# Altium footprint library Alcetronics_IC.PcbLib: 43 footprints (part 3 of 3)
Each footprint in its own frame and in the unit in brackets; x right, y up, seen from the top. Pads: shape width x height; smd on the part's side, far side on the other; paste and mask are expansions set on the pad; w line width, h text height; cw(c..) or ccw(c..) is an arc to the next point about the centre after c.
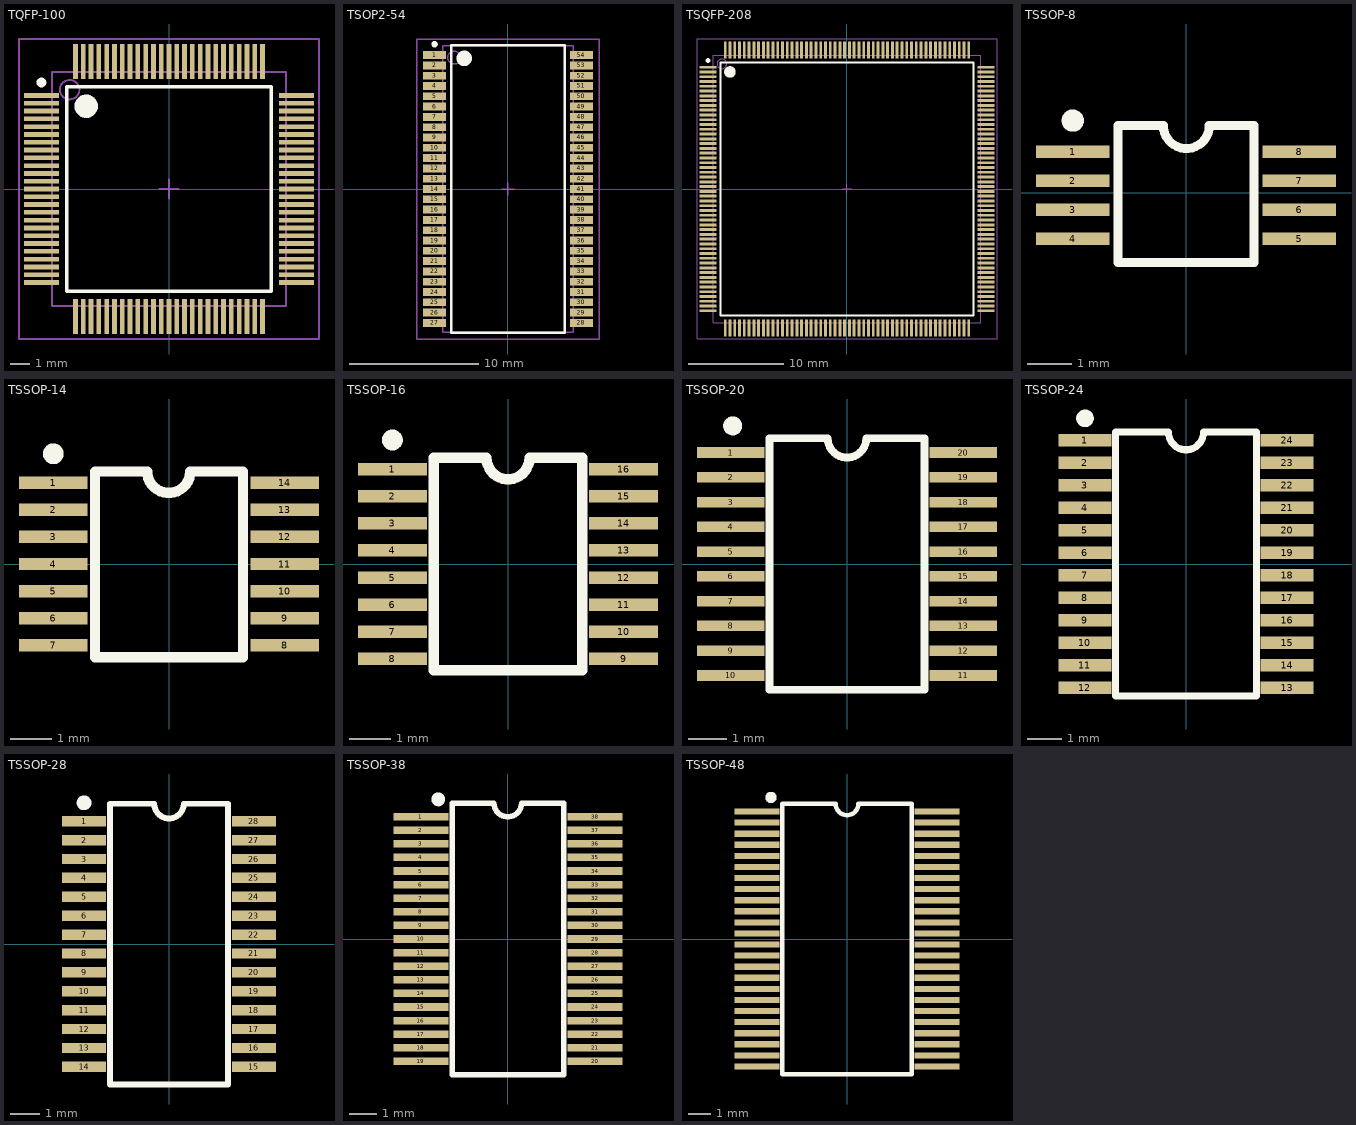
[diagram p2: the footprints below, top view; thin cyan lines are the x and y axes]

## TQFP-100 [mm] "Thin QFP, 100-Leads, Body 12x12mm, Pitch 0.4mm, IPC Medium Density"
height 1.2
pads (100):
  rect 1.8x0.24 smd: 1(-6.55,4.8) 2(-6.55,4.4) 3(-6.55,4) 4(-6.55,3.6) 5(-6.55,3.2) 6(-6.55,2.8) 7(-6.55,2.4) 8(-6.55,2) 9(-6.55,1.6) 10(-6.55,1.2) 11(-6.55,0.8) 12(-6.55,0.4) 13(-6.55,0) 14(-6.55,-0.4) 15(-6.55,-0.8) 16(-6.55,-1.2) 17(-6.55,-1.6) 18(-6.55,-2) 19(-6.55,-2.4) 20(-6.55,-2.8) 21(-6.55,-3.2) 22(-6.55,-3.6) 23(-6.55,-4) 24(-6.55,-4.4) 25(-6.55,-4.8) 51(6.55,-4.8) 52(6.55,-4.4) 53(6.55,-4) 54(6.55,-3.6) 55(6.55,-3.2) 56(6.55,-2.8) 57(6.55,-2.4) 58(6.55,-2) 59(6.55,-1.6) 60(6.55,-1.2) 61(6.55,-0.8) 62(6.55,-0.4) 63(6.55,0) 64(6.55,0.4) 65(6.55,0.8) 66(6.55,1.2) 67(6.55,1.6) 68(6.55,2) 69(6.55,2.4) 70(6.55,2.8) 71(6.55,3.2) 72(6.55,3.6) 73(6.55,4) 74(6.55,4.4) 75(6.55,4.8)
  rect 0.24x1.8 smd: 26(-4.8,-6.55) 27(-4.4,-6.55) 28(-4,-6.55) 29(-3.6,-6.55) 30(-3.2,-6.55) 31(-2.8,-6.55) 32(-2.4,-6.55) 33(-2,-6.55) 34(-1.6,-6.55) 35(-1.2,-6.55) 36(-0.8,-6.55) 37(-0.4,-6.55) 38(0,-6.55) 39(0.4,-6.55) 40(0.8,-6.55) 41(1.2,-6.55) 42(1.6,-6.55) 43(2,-6.55) 44(2.4,-6.55) 45(2.8,-6.55) 46(3.2,-6.55) 47(3.6,-6.55) 48(4,-6.55) 49(4.4,-6.55) 50(4.8,-6.55) 76(4.8,6.55) 77(4.4,6.55) 78(4,6.55) 79(3.6,6.55) 80(3.2,6.55) 81(2.8,6.55) 82(2.4,6.55) 83(2,6.55) 84(1.6,6.55) 85(1.2,6.55) 86(0.8,6.55) 87(0.4,6.55) 88(0,6.55) 89(-0.4,6.55) 90(-0.8,6.55) 91(-1.2,6.55) 92(-1.6,6.55) 93(-2,6.55) 94(-2.4,6.55) 95(-2.8,6.55) 96(-3.2,6.55) 97(-3.6,6.55) 98(-4,6.55) 99(-4.4,6.55) 100(-4.8,6.55)
Top Overlay:
  circle w0.6: c-4.25,4.25 r0.3
  circle w0.25: c-6.55,5.47 r0.125
  lines w0.2: -5.25,-5.25 5.25,-5.25 5.25,5.25 -5.25,5.25 -5.25,-5.25
Mechanical 13:
  circle w0.1: c-5.1,5.1 r0.5
  lines w0.1: -6,-6 6,-6 6,6 -6,6 -6,-6
Mechanical 15:
  lines w0.1: -0.5,0 0.5,0 ; 0,-0.5 0,0.5 ; -7.7,-7.7 7.7,-7.7 7.7,7.7 -7.7,7.7 -7.7,-7.7
3D body: height 1.2, standoff 0, extent -6,-6 6,6

## TSOP2-54 [mm] "54-Pin Plastic Small Outline Package 0.8 mm Pitch, IPC Low Density"
height 1.2
pads (54):
  rect 1.8x0.6 smd: 1(-5.7,10.4) 2(-5.7,9.6) 3(-5.7,8.8) 4(-5.7,8) 5(-5.7,7.2) 6(-5.7,6.4) 7(-5.7,5.6) 8(-5.7,4.8) 9(-5.7,4) 10(-5.7,3.2) 11(-5.7,2.4) 12(-5.7,1.6) 13(-5.7,0.8) 14(-5.7,0) 15(-5.7,-0.8) 16(-5.7,-1.6) 17(-5.7,-2.4) 18(-5.7,-3.2) 19(-5.7,-4) 20(-5.7,-4.8) 21(-5.7,-5.6) 22(-5.7,-6.4) 23(-5.7,-7.2) 24(-5.7,-8) 25(-5.7,-8.8) 26(-5.7,-9.6) 27(-5.7,-10.4) 28(5.7,-10.4) 29(5.7,-9.6) 30(5.7,-8.8) 31(5.7,-8) 32(5.7,-7.2) 33(5.7,-6.4) 34(5.7,-5.6) 35(5.7,-4.8) 36(5.7,-4) 37(5.7,-3.2) 38(5.7,-2.4) 39(5.7,-1.6) 40(5.7,-0.8) 41(5.7,0) 42(5.7,0.8) 43(5.7,1.6) 44(5.7,2.4) 45(5.7,3.2) 46(5.7,4) 47(5.7,4.8) 48(5.7,5.6) 49(5.7,6.4) 50(5.7,7.2) 51(5.7,8) 52(5.7,8.8) 53(5.7,9.6) 54(5.7,10.4)
Top Overlay:
  circle w0.25: c-5.7,11.25 r0.125
  circle w0.6: c-3.4,10.15 r0.3
  lines w0.2: -4.4,-11.15 -4.4,11.15 4.4,11.15 4.4,-11.15 -4.4,-11.15
Mechanical 13:
  circle w0.1: c-4.18,10.21 r0.5
  lines w0.1: -5.08,-11.11 -5.08,11.11 5.08,11.11 5.08,-11.11 -5.08,-11.11
Mechanical 15:
  lines w0.1: -0.5,0 0.5,0 ; 0,-0.5 0,0.5 ; -7.1,-11.65 -7.1,11.65 7.1,11.65 7.1,-11.65 -7.1,-11.65
3D body: height 1.2, standoff 0, extent -5.08,-11.11 5.08,11.11

## TSQFP-208 [mm] "Thin QFP, 208-Leads, Body 28x28mm, Pitch 0.5mm, IPC Medium Density"
height 1.6
pads (208):
  rect 1.8x0.3 smd: 1(-14.55,12.75) 2(-14.55,12.25) 3(-14.55,11.75) 4(-14.55,11.25) 5(-14.55,10.75) 6(-14.55,10.25) 7(-14.55,9.75) 8(-14.55,9.25) 9(-14.55,8.75) 10(-14.55,8.25) 11(-14.55,7.75) 12(-14.55,7.25) 13(-14.55,6.75) 14(-14.55,6.25) 15(-14.55,5.75) 16(-14.55,5.25) 17(-14.55,4.75) 18(-14.55,4.25) 19(-14.55,3.75) 20(-14.55,3.25) 21(-14.55,2.75) 22(-14.55,2.25) 23(-14.55,1.75) 24(-14.55,1.25) 25(-14.55,0.75) 26(-14.55,0.25) 27(-14.55,-0.25) 28(-14.55,-0.75) 29(-14.55,-1.25) 30(-14.55,-1.75) 31(-14.55,-2.25) 32(-14.55,-2.75) 33(-14.55,-3.25) 34(-14.55,-3.75) 35(-14.55,-4.25) 36(-14.55,-4.75) 37(-14.55,-5.25) 38(-14.55,-5.75) 39(-14.55,-6.25) 40(-14.55,-6.75) 41(-14.55,-7.25) 42(-14.55,-7.75) 43(-14.55,-8.25) 44(-14.55,-8.75) 45(-14.55,-9.25) 46(-14.55,-9.75) 47(-14.55,-10.25) 48(-14.55,-10.75) 49(-14.55,-11.25) 50(-14.55,-11.75) 51(-14.55,-12.25) 52(-14.55,-12.75) 105(14.55,-12.75) 106(14.55,-12.25) 107(14.55,-11.75) 108(14.55,-11.25) 109(14.55,-10.75) 110(14.55,-10.25) 111(14.55,-9.75) 112(14.55,-9.25) 113(14.55,-8.75) 114(14.55,-8.25) 115(14.55,-7.75) 116(14.55,-7.25) 117(14.55,-6.75) 118(14.55,-6.25) 119(14.55,-5.75) 120(14.55,-5.25) 121(14.55,-4.75) 122(14.55,-4.25) 123(14.55,-3.75) 124(14.55,-3.25) 125(14.55,-2.75) 126(14.55,-2.25) 127(14.55,-1.75) 128(14.55,-1.25) 129(14.55,-0.75) 130(14.55,-0.25) 131(14.55,0.25) 132(14.55,0.75) 133(14.55,1.25) 134(14.55,1.75) 135(14.55,2.25) 136(14.55,2.75) 137(14.55,3.25) 138(14.55,3.75) 139(14.55,4.25) 140(14.55,4.75) 141(14.55,5.25) 142(14.55,5.75) 143(14.55,6.25) 144(14.55,6.75) 145(14.55,7.25) 146(14.55,7.75) 147(14.55,8.25) 148(14.55,8.75) 149(14.55,9.25) 150(14.55,9.75) 151(14.55,10.25) 152(14.55,10.75) 153(14.55,11.25) 154(14.55,11.75) 155(14.55,12.25) 156(14.55,12.75)
  rect 0.3x1.8 smd: 53(-12.75,-14.55) 54(-12.25,-14.55) 55(-11.75,-14.55) 56(-11.25,-14.55) 57(-10.75,-14.55) 58(-10.25,-14.55) 59(-9.75,-14.55) 60(-9.25,-14.55) 61(-8.75,-14.55) 62(-8.25,-14.55) 63(-7.75,-14.55) 64(-7.25,-14.55) 65(-6.75,-14.55) 66(-6.25,-14.55) 67(-5.75,-14.55) 68(-5.25,-14.55) 69(-4.75,-14.55) 70(-4.25,-14.55) 71(-3.75,-14.55) 72(-3.25,-14.55) 73(-2.75,-14.55) 74(-2.25,-14.55) 75(-1.75,-14.55) 76(-1.25,-14.55) 77(-0.75,-14.55) 78(-0.25,-14.55) 79(0.25,-14.55) 80(0.75,-14.55) 81(1.25,-14.55) 82(1.75,-14.55) 83(2.25,-14.55) 84(2.75,-14.55) 85(3.25,-14.55) 86(3.75,-14.55) 87(4.25,-14.55) 88(4.75,-14.55) 89(5.25,-14.55) 90(5.75,-14.55) 91(6.25,-14.55) 92(6.75,-14.55) 93(7.25,-14.55) 94(7.75,-14.55) 95(8.25,-14.55) 96(8.75,-14.55) 97(9.25,-14.55) 98(9.75,-14.55) 99(10.25,-14.55) 100(10.75,-14.55) 101(11.25,-14.55) 102(11.75,-14.55) 103(12.25,-14.55) 104(12.75,-14.55) 157(12.75,14.55) 158(12.25,14.55) 159(11.75,14.55) 160(11.25,14.55) 161(10.75,14.55) 162(10.25,14.55) 163(9.75,14.55) 164(9.25,14.55) 165(8.75,14.55) 166(8.25,14.55) 167(7.75,14.55) 168(7.25,14.55) 169(6.75,14.55) 170(6.25,14.55) 171(5.75,14.55) 172(5.25,14.55) 173(4.75,14.55) 174(4.25,14.55) 175(3.75,14.55) 176(3.25,14.55) 177(2.75,14.55) 178(2.25,14.55) 179(1.75,14.55) 180(1.25,14.55) 181(0.75,14.55) 182(0.25,14.55) 183(-0.25,14.55) 184(-0.75,14.55) 185(-1.25,14.55) 186(-1.75,14.55) 187(-2.25,14.55) 188(-2.75,14.55) 189(-3.25,14.55) 190(-3.75,14.55) 191(-4.25,14.55) 192(-4.75,14.55) 193(-5.25,14.55) 194(-5.75,14.55) 195(-6.25,14.55) 196(-6.75,14.55) 197(-7.25,14.55) 198(-7.75,14.55) 199(-8.25,14.55) 200(-8.75,14.55) 201(-9.25,14.55) 202(-9.75,14.55) 203(-10.25,14.55) 204(-10.75,14.55) 205(-11.25,14.55) 206(-11.75,14.55) 207(-12.25,14.55) 208(-12.75,14.55)
Top Overlay:
  circle w0.6: c-12.25,12.25 r0.3
  circle w0.25: c-14.55,13.45 r0.125
  lines w0.2: -13.25,-13.25 13.25,-13.25 13.25,13.25 -13.25,13.25 -13.25,-13.25
Mechanical 13:
  circle w0.1: c-13.1,13.1 r0.5
  lines w0.1: -14,-14 14,-14 14,14 -14,14 -14,-14
Mechanical 15:
  lines w0.1: -0.5,0 0.5,0 ; 0,-0.5 0,0.5 ; -15.7,-15.7 15.7,-15.7 15.7,15.7 -15.7,15.7 -15.7,-15.7
3D body: height 1.6, standoff 0, extent -14,-14 14,14

## TSSOP-8 [mil] "Shrink Small Outline; 8 Leads; Body Width 4.4 mm; Pitch 0.65 mm"
height 47.24
pads (8):
  rect 65x11 smd: 1(-100,36.18) 2(-100,10.59) 3(-100,-15) 4(-100,-40.59) 5(100,-40.59) 6(100,-15) 7(100,10.59) 8(100,36.18)
Top Overlay:
  circle w9.84: c-100,63.74 r4.92
  lines w7.87: -20,59.41 ccw(c0.34,59.41) 20.68,59.41
  lines w8: -20.34,59.41 -60,59.41 -60,-61.62 60,-61.62 60,59.41 20.34,59.41

## TSSOP-14 [mm] "Thin Small Outline Package"
pads (14):
  rect 1.65x0.3 smd: 1(-2.781,1.95) 2(-2.781,1.3) 3(-2.781,0.65) 4(-2.781,0) 5(-2.781,-0.65) 6(-2.781,-1.3) 7(-2.781,-1.95) 8(2.781,-1.95) 9(2.781,-1.3) 10(2.781,-0.65) 11(2.781,0) 12(2.781,0.65) 13(2.781,1.3) 14(2.781,1.95)
Top Overlay:
  circle w0.25: c-2.781,2.65 r0.125
  lines w0.25: -1.778,-2.24 -1.778,2.225 -0.523,2.225 ccw(c-0.006,2.225) 0.51,2.225 1.778,2.225 1.778,-2.24 -1.778,-2.24

## TSSOP-16 [mm] "plastic thin shrink small outline package; 16 leads;"
height 1.1
pads (16):
  rect 1.65x0.3 smd: 1(-2.775,2.275) 2(-2.775,1.625) 3(-2.775,0.975) 4(-2.775,0.325) 5(-2.775,-0.325) 6(-2.775,-0.975) 7(-2.775,-1.625) 8(-2.775,-2.275) 9(2.775,-2.275) 10(2.775,-1.625) 11(2.775,-0.975) 12(2.775,-0.325) 13(2.775,0.325) 14(2.775,0.975) 15(2.775,1.625) 16(2.775,2.275)
Top Overlay:
  circle w0.25: c-2.775,2.975 r0.125
  lines w0.25: -1.778,-2.55 -1.778,2.55 -0.517,2.55 ccw(c0,2.55) 0.517,2.55 1.778,2.55 1.778,-2.55 -1.778,-2.55

## TSSOP-20 [mil] "Thin Shrink Small Outline; 20 Leads; Body Width 4.4 mm; Pitch 0.65 mm"
height 43.31
pads (20):
  rect 70x11 smd: 1(-120,115.16) 2(-120,89.57) 3(-120,63.98) 4(-120,38.39) 5(-120,12.8) 6(-120,-12.8) 7(-120,-38.39) 8(-120,-63.98) 9(-120,-89.57) 10(-120,-115.16) 11(120,-115.16) 12(120,-89.57) 13(120,-63.98) 14(120,-38.39) 15(120,-12.8) 16(120,12.8) 17(120,38.39) 18(120,63.98) 19(120,89.57) 20(120,115.16)
Top Overlay:
  circle w9.84: c-118.11,142.72 r4.92
  lines w8: -80,-130 80,-130 80,130 20,130 cw(c0,130) -20,130 -80,130 -80,-130

## TSSOP-24 [mil] "Shrink Small Outline; 24 Leads; Body Width 4.4 mm; Pitch 0.65 mm"
height 43.31
pads (24):
  rect 60x14 smd: 1(-115,140.75) 2(-115,115.16) 3(-115,89.57) 4(-115,63.98) 5(-115,38.39) 6(-115,12.8) 7(-115,-12.8) 8(-115,-38.39) 9(-115,-63.98) 10(-115,-89.57) 11(-115,-115.16) 12(-115,-140.75) 13(115,-140.75) 14(115,-115.16) 15(115,-89.57) 16(115,-63.98) 17(115,-38.39) 18(115,-12.8) 19(115,12.8) 20(115,38.39) 21(115,63.98) 22(115,89.57) 23(115,115.16) 24(115,140.75)
Top Overlay:
  circle w10: c-115,165.75 r5
  lines w8: -80,-150 -80,150 -20,150 ccw(c0,150) 20,150 80,150 80,-150 -80,-150

## TSSOP-28 [mil] "Shrink Small Outline; 28 Leads; Body Width 4.4 mm; Pitch 0.65 mm"
height 43.31
pads (28):
  rect 60x14 smd: 1(-115,166.34) 2(-115,140.75) 3(-115,115.16) 4(-115,89.57) 5(-115,63.98) 6(-115,38.39) 7(-115,12.8) 8(-115,-12.8) 9(-115,-38.39) 10(-115,-63.98) 11(-115,-89.57) 12(-115,-115.16) 13(-115,-140.75) 14(-115,-166.34) 15(115,-166.34) 16(115,-140.75) 17(115,-115.16) 18(115,-89.57) 19(115,-63.98) 20(115,-38.39) 21(115,-12.79) 22(115,12.8) 23(115,38.39) 24(115,63.98) 25(115,89.57) 26(115,115.16) 27(115,140.75) 28(115,166.34)
Top Overlay:
  circle w10: c-115,191.34 r5
  lines w7.99: -80,-190 80,-190
  lines w8: -80,-190 -80,190 -20,190 ccw(c0,190) 20,190 80,190 80,-190

## TSSOP-38 [mil]
pads (38):
  rect 80x11 smd: 1(-125.98,177.17) 2(-125.98,157.48) 3(-125.98,137.8) 4(-125.98,118.11) 5(-125.98,98.43) 6(-125.98,78.74) 7(-125.98,59.06) 8(-125.98,39.37) 9(-125.98,19.69) 10(-125.98,0) 11(-125.98,-19.68) 12(-125.98,-39.37) 13(-125.98,-59.05) 14(-125.98,-78.74) 15(-125.98,-98.42) 16(-125.98,-118.11) 17(-125.98,-137.8) 18(-125.98,-157.48) 19(-125.98,-177.17) 20(125.98,-177.17) 21(125.98,-157.48) 22(125.98,-137.8) 23(125.98,-118.11) 24(125.98,-98.43) 25(125.98,-78.74) 26(125.98,-59.06) 27(125.98,-39.37) 28(125.98,-19.69) 29(125.98,0) 30(125.98,19.68) 31(125.98,39.37) 32(125.98,59.05) 33(125.98,78.74) 34(125.98,98.43) 35(125.98,118.11) 36(125.98,137.8) 37(125.98,157.48) 38(125.98,177.17)
Top Overlay:
  circle w10: c-100.98,202.17 r5
  lines w8: -80.98,-196.85 80.98,-196.85 80.98,196.85 19.69,196.85 cw(c-0.31,196.85) -20.31,196.85 -80.98,196.85 -80.98,-196.85

## TSSOP-48 [mil]
pads (48):
  rect 80x11 smd: 1(-160,226.38) 2(-160,206.69) 3(-160,187.01) 4(-160,167.32) 5(-160,147.64) 6(-160,127.95) 7(-160,108.27) 8(-160,88.58) 9(-160,68.9) 10(-160,49.21) 11(-160,29.53) 12(-160,9.84) 13(-160,-9.84) 14(-160,-29.53) 15(-160,-49.21) 16(-160,-68.9) 17(-160,-88.58) 18(-160,-108.27) 19(-160,-127.95) 20(-160,-147.64) 21(-160,-167.32) 22(-160,-187.01) 23(-160,-206.69) 24(-160,-226.38) 25(160,-226.38) 26(160,-206.69) 27(160,-187.01) 28(160,-167.32) 29(160,-147.64) 30(160,-127.95) 31(160,-108.27) 32(160,-88.58) 33(160,-68.9) 34(160,-49.21) 35(160,-29.53) 36(160,-9.84) 37(160,9.84) 38(160,29.53) 39(160,49.21) 40(160,68.9) 41(160,88.58) 42(160,108.27) 43(160,127.95) 44(160,147.64) 45(160,167.32) 46(160,187.01) 47(160,206.69) 48(160,226.38)
Top Overlay:
  circle w10: c-135,251.38 r5
  lines w8: -115,-240 115,-240 115,240 20,240 cw(c0,240) -20,240 -115,240 -115,-240